# Altium footprint library Capasitor.PcbLib: 7 footprints
Each footprint in its own frame and in the unit in brackets; x right, y up, seen from the top. Pads: shape width x height; smd on the part's side, far side on the other; paste and mask are expansions set on the pad; w line width, h text height; cw(c..) or ccw(c..) is an arc to the next point about the centre after c.
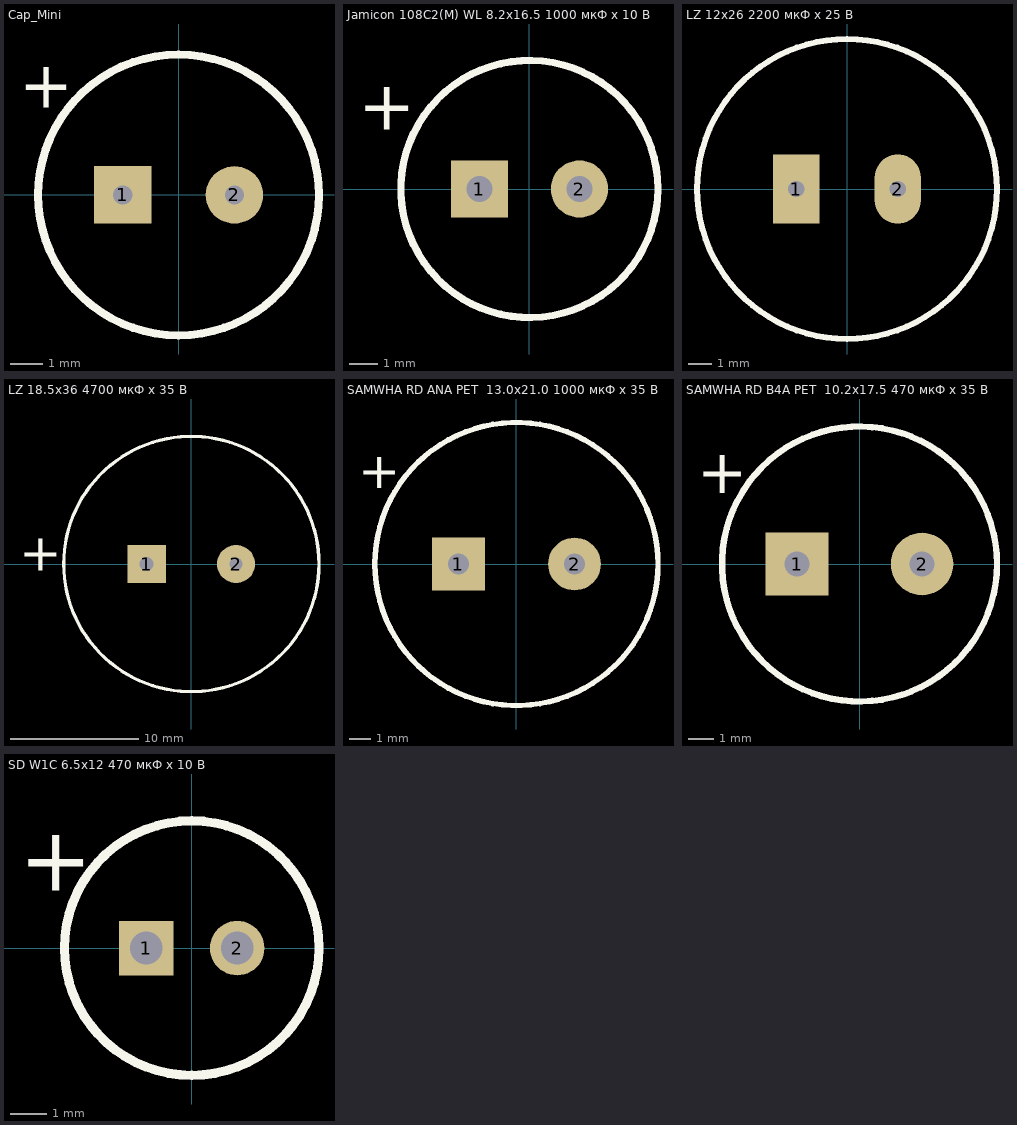
[diagram p0: the footprints below, top view; thin cyan lines are the x and y axes]

## Cap_Mini [mm] "D=8.4 d=0.6 S=3.5"
height 6
pads (2):
  rect 1.8x1.8 hole 0.6: 1(-1.75,0)
  round 1.8 hole 0.6: 2(1.75,0)
Top Overlay:
  circle w0.254: c0,0 r4.4
  text "+" at -5,2.25 h2.52

## Jamicon 108C2(M) WL 8.2x16.5 1000 мкФ x 10 В [mm] "D=8.2 d=0.6 S=3.5 h=16.5"
height 16.5
pads (2):
  rect 2x2 hole 0.9: 1(-1.75,0)
  round 2 hole 0.9: 2(1.75,0)
Top Overlay:
  circle w0.254: c0,0 r4.5
  text "+" at -6,1.5 h3

## LZ 12x26 2200 мкФ x 25 В [mm] "D=12.0 d=0.7 S=4.4"
height 26
pads (2):
  rect 2x3 hole 0.7: 1(-2.2,0)
  oval 2x3 hole 0.7: 2(2.2,0)
Top Overlay:
  circle w0.254: c0,0 r6.5

## LZ 18.5x36 4700 мкФ x 35 В [mm] "D=18.5 d=0.8 S=7.0"
height 36
pads (2):
  rect 3x3 hole 1.1: 1(-3.5,0)
  round 3 hole 1: 2(3.5,0)
Top Overlay:
  circle w0.254: c0,0 r10
  text "+" at -13.5,-1.5 h5

## SAMWHA RD ANA PET  13.0x21.0 1000 мкФ x 35 В [mm] "D=13.0 d=0.6 S=5.5 h=21.0"
height 21
pads (2):
  rect 2.5x2.5 hole 1: 1(-2.75,0)
  round 2.5 hole 1: 2(2.75,0)
Top Overlay:
  circle w0.254: c0,0 r6.7
  text "+" at -7.5,3 h3

## SAMWHA RD B4A PET  10.2x17.5 470 мкФ x 35 В [mm] "D=10.2 d=0.6 S=5.0 h=17.5"
height 17.5
pads (2):
  rect 2.5x2.5 hole 1: 1(-2.5,0)
  round 2.5 hole 1: 2(2.5,0)
Top Overlay:
  circle w0.254: c0,0 r5.5
  text "+" at -6.5,2.25 h3

## SD W1C 6.5x12 470 мкФ x 10 В [mm] "D=6.5 d=0.5 S=2.5 h=12"
height 12
pads (2):
  rect 1.5x1.5 hole 0.9: 1(-1.25,0)
  round 1.5 hole 0.9: 2(1.25,0)
Top Overlay:
  circle w0.254: c0,0 r3.5
  text "+" at -4.75,1 h3